# Altium schematic symbol library SCH - FUSE - FUSE HOLDER.SchLib: 1 symbol
Pins are listed as number, name and electrical type; pins without a type are passive.

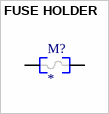
[diagram p0: symbol FUSE HOLDER]

## FUSE HOLDER
designator M?
pins: 1, 2